# Altium footprint library Switch_C&K_OS102011MA1QN1_eec_0.PcbLib: 1 footprints
Each footprint in its own frame and in the unit in brackets; x right, y up, seen from the top. Pads: shape width x height; smd on the part's side, far side on the other; paste and mask are expansions set on the pad; w line width, h text height; cw(c..) or ccw(c..) is an arc to the next point about the centre after c.
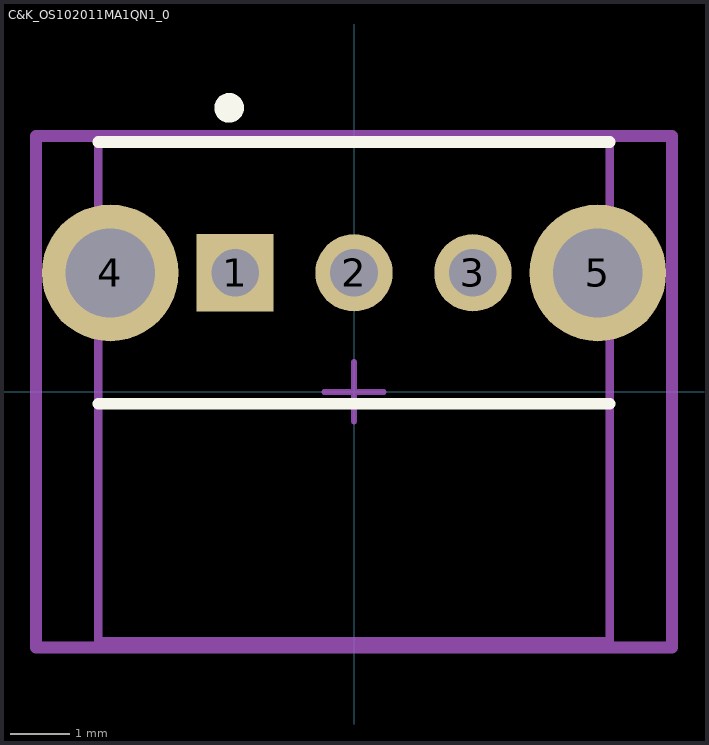
[diagram p0: the footprint, top view; thin cyan lines are the x and y axes]

## C&K_OS102011MA1QN1_0 [mm]
pads (5):
  rect 1.3x1.3 hole 0.8 paste-1000 mask+0: 1(-2,2)
  round 1.3 hole 0.8 paste-1000 mask+0: 2(0,2) 3(2,2)
  round 2.3 hole 1.5 paste-1000 mask+0: 4(-4.1,2) 5(4.1,2)
Top Overlay:
  circle w0.25: c-2.1,4.775 r0.125
  lines w0.2: -4.3,-0.2 4.3,-0.2 ; -4.3,4.2 4.3,4.2
Mechanical 10:
  lines w0.2: -5.35,-4.3 5.35,-4.3 5.35,4.3 -5.35,4.3 -5.35,-4.3
  text ".Designator" at 0,0 h1
Mechanical 12:
  lines w0.15: -4.3,-4.2 4.3,-4.2 4.3,4.2 -4.3,4.2 -4.3,-4.2
Mechanical 15:
  lines w0.1: -0.5,0 0.5,0 ; 0,-0.5 0,0.5
  lines w0.2: -5.35,-4.3 5.35,-4.3 5.35,4.3 -5.35,4.3 -5.35,-4.3
3D body "3dmodel.step": height 0.25, standoff 0, extent -5.35,-4.3 5.35,4.3